# Altium schematic symbol library SLW-116641-5A-S-D.SchLib: 1 symbol
Pins are listed as number, name and electrical type; pins without a type are passive.

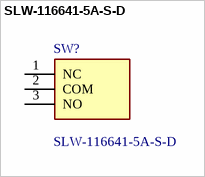
[diagram p0: symbol SLW-116641-5A-S-D]

## SLW-116641-5A-S-D
designator SW?
Slide Switches 11.6 x 6 x 4.1 mm, 5 mm Raised Slide Actuator, Through Hole; Manufacturer_Name: Same Sky; Geometry.Height: 11.3mm; Mouser Part Number: 179-SLW1166415ASD; Mouser Price/Stock: https://www.mouser.co.uk/ProductDetail/Same-Sky/SLW-116641-5A-S-D?qs=IKkN%2F947nfBZSdW8n5Vqgw%3D%3D; Manufacturer_Part_Number: SLW-116641-5A-S-D; Datasheet Link: https://www.cuidevices.com/product/resource/pdf/slw-116641-5a-s-d.pdf
footprint SLW1166415ASD
pins: 1 NC, 2 COM, 3 NO